# Altium schematic symbol library Miscellaneous Model.SchLib: 7 symbols
Pins are listed as number, name and electrical type; pins without a type are passive.

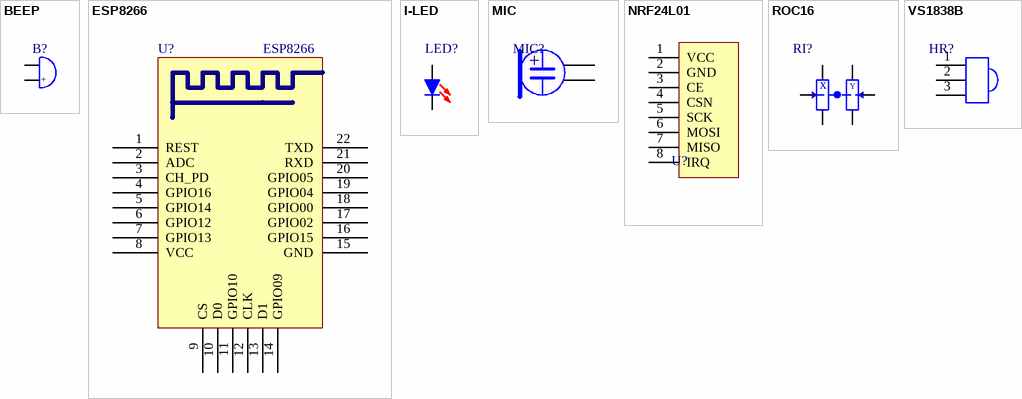
[diagram p0: symbols BEEP to VS1838B]

## BEEP
designator B?
蜂鸣器
footprint BEEP 6.5x12x6 (6.5*12*6mm(脚距,直径,高度))
footprint BEEP 5x9x5.5 (5*9*5.5mm(脚距,直径,高度))
footprint BEEP 6.5x12x8.5 (6.5*12*8.5mm(脚距,直径,高度))
footprint BEEP 7.6X12X7.5 (6.5*12*7.5mm(脚距,直径,高度))
footprint BEEP 7.6X12X9.5 (6.5*12*9.5mm(脚距,直径,高度))
pins: 1, 2
text: +

## ESP8266
designator U?
WIFI模块
footprint ESP_12
pins: 1 REST, 2 ADC, 3 CH_PD, 4 GPIO16, 5 GPIO14, 6 GPIO12, 7 GPIO13, 8 VCC, 9 CS, 10 D0, 11 GPIO10, 12 CLK, 13 D1, 14 GPIO09, 15 GND, 16 GPIO15, 17 GPIO02, 18 GPIO00, 19 GPIO04, 20 GPIO05, 21 RXD, 22 TXD

## I-LED
designator LED?
红外二极管
footprint I-LED-3MM
footprint I-LED-5MM
pins: 1 A, 2 K

## MIC
designator MIC?
驻极体麦克风
footprint MIC-4.5X1.9
footprint MIC-6X5.5mm
pins: 1, 2
text: +

## NRF24L01
designator U?
2.4G无线模块
footprint NRF24L01
pins: 1 VCC (power), 2 GND (power), 3 CE (power), 4 CSN (power), 5 SCK (power), 6 MOSI (power), 7 MISO (power), 8 IRQ (power)

## ROC16
designator RI?
摇杆电位器
footprint ROC16 (摇杆电位器，长16mm，宽16mm，高12.2mm)
pins: 1, 2, 3, 4, 5, 6
text: x; Y

## VS1838B
designator HR?
红外接收头
footprint VS1838B-A (一体红外接收头)
footprint VS1838B-B (一体红外接收头)
footprint VS1838B-B_H (卧式一体红外接收头)
footprint VS1838B-A_H (卧式一体红外接收头)
pins: 1 A "Anode", 2 K "Cathode", 3 E "Emitter"